# EAGLE library part RFM12B (library rauchmelder)
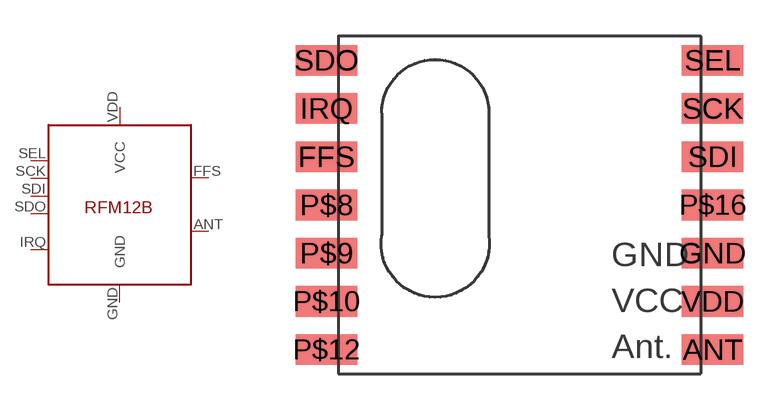
[diagram p0: symbol with the pads of RFM12B; footprint RFM12B]

Designator prefix -

## RFM12B  [RFM12B]
ANT  ANT  pas
FFS  FFS
GND  GND  pwr
IRQ  IRQ  oc
SCK  SCK  in
SDI  SDI  in
SDO  SDO  out
SEL  SEL  in
VDD  VCC  pwr

## Footprint RFM12B (pad centres in mm)
RFM12B radio module by HopeRF
smd 2.54 x 1.27: ANT 8,-6; FFS -8,2; GND 8,-2; IRQ -8,4; P$8 -8,0; P$9 -8,-2; P$10 -8,-4; P$12 -8,-6; P$16 8,0; SCK 8,4; SDI 8,2; SDO -8,6; SEL 8,6; VDD 8,-4